# EAGLE library part DS1307 (library DMClock2018)
Maxim DS1307 real time clock
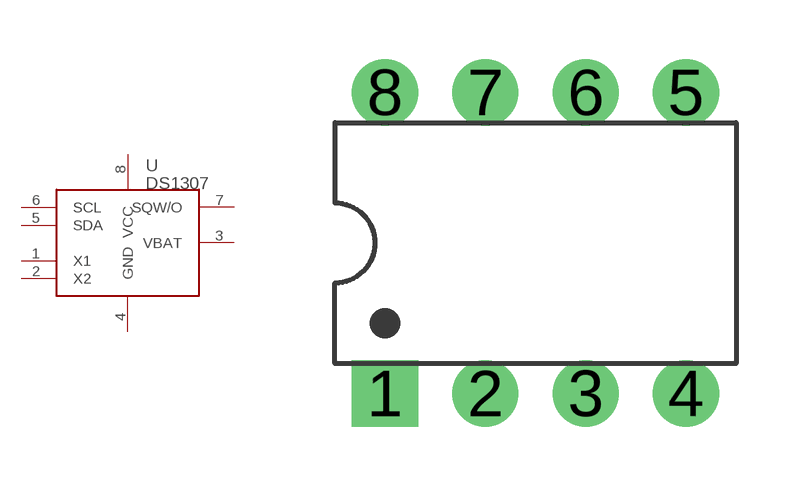
[diagram p3: symbol with the pads of DIL08; footprint DIL08]

Designator prefix U

## DS1307'DIL'  [DIL08]
1  X1
2  X2
3  VBAT
4  GND
5  SDA
6  SCL
7  SQW/O
8  VCC

## Footprint DIL08 (pad centres in mm)
drill 0.8 pad 1.676 square: 1 -3.81,-3.81
drill 0.8 pad 1.676 round: 2 -1.27,-3.81; 3 1.27,-3.81; 4 3.81,-3.81; 5 3.81,3.81; 6 1.27,3.81; 7 -1.27,3.81; 8 -3.81,3.81